# Altium footprint library 691 338 500 0xx.PcbLib: 6 footprints
Each footprint in its own frame and in the unit in brackets; x right, y up, seen from the top. Pads: shape width x height; smd on the part's side, far side on the other; paste and mask are expansions set on the pad; w line width, h text height; cw(c..) or ccw(c..) is an arc to the next point about the centre after c.
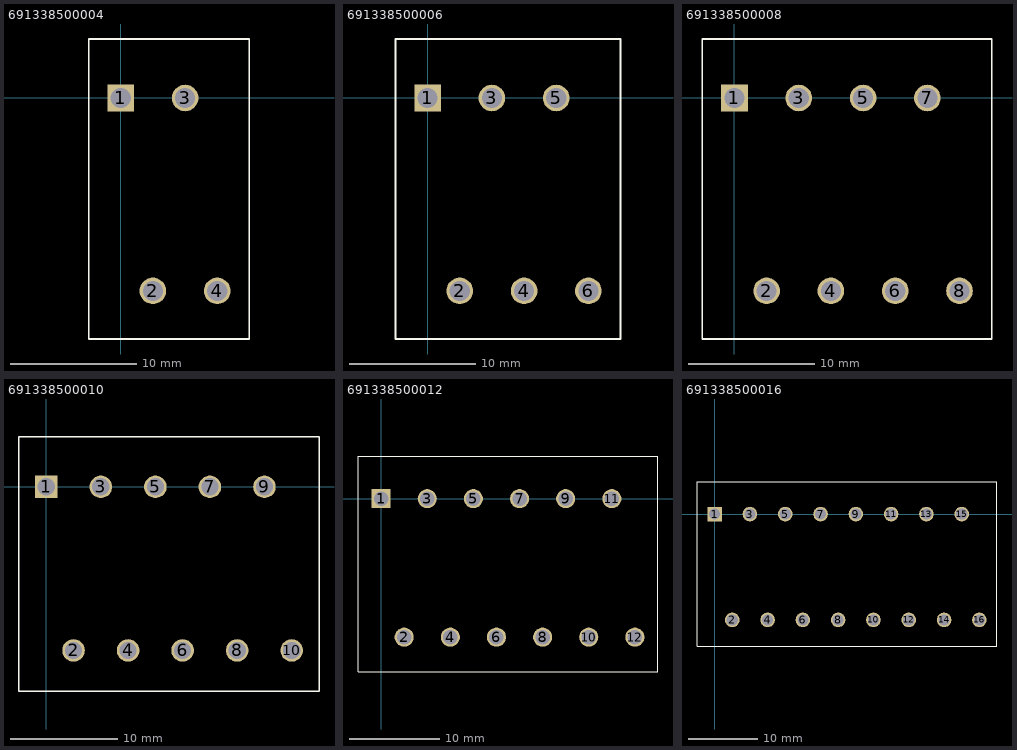
[diagram p0: the footprints below, top view; thin cyan lines are the x and y axes]

## 691338500004 [mm] "5,08mm - PCB - Dual row - Staggered - Vertical - Open - 04p"
height 22
pads (4):
  rect 2.1x2.1 hole 1.6: 1(0,0)
  round 2.1 hole 1.6: 2(2.54,-15.24) 3(5.08,0) 4(7.62,-15.24)
Top Overlay:
  lines w0.127: -2.54,-19.04 10.16,-19.04 10.16,4.66 -2.54,4.66 -2.54,-19.04
3D body: height 22.01, standoff -3.89, extent -2.54,-19.04 10.16,4.66

## 691338500006 [mm] "5,08mm - PCB - Dual row - Staggered - Vertical - Open - 06p"
height 22
pads (6):
  rect 2.1x2.1 hole 1.6: 1(0,0)
  round 2.1 hole 1.6: 2(2.54,-15.24) 3(5.08,0) 4(7.62,-15.24) 5(10.16,0) 6(12.7,-15.24)
Top Overlay:
  lines w0.127: 2.54,-19.04 15.24,-19.04 15.24,4.66 2.54,4.66 ; 10.16,-19.04 -2.54,-19.04 -2.54,4.66 10.16,4.66
3D body: height 22.01, standoff -3.89, extent -2.54,-19.04 15.24,4.66

## 691338500008 [mm] "5,08mm - PCB - Dual row - Staggered - Vertical - Open - 08p"
height 22
pads (8):
  rect 2.1x2.1 hole 1.6: 1(0,0)
  round 2.1 hole 1.6: 2(2.54,-15.24) 3(5.08,0) 4(7.62,-15.24) 5(10.16,0) 6(12.7,-15.24) 7(15.24,0) 8(17.78,-15.24)
Top Overlay:
  lines w0.127: 7.62,-19.04 20.32,-19.04 20.32,4.66 7.62,4.66 ; 10.16,-19.04 -2.54,-19.04 -2.54,4.66 10.16,4.66
3D body: height 22.01, standoff -3.89, extent -2.54,-19.04 20.32,4.66

## 691338500010 [mm] "5,08mm - PCB - Dual row - Staggered - Vertical - Open - 10p"
height 22
pads (10):
  rect 2.1x2.1 hole 1.6: 1(0,0)
  round 2.1 hole 1.6: 2(2.54,-15.24) 3(5.08,0) 4(7.62,-15.24) 5(10.16,0) 6(12.7,-15.24) 7(15.24,0) 8(17.78,-15.24) 9(20.32,0) 10(22.86,-15.24)
Top Overlay:
  lines w0.127: 7.62,-19.04 20.32,-19.04 ; 7.62,4.66 20.32,4.66 ; 10.16,-19.04 -2.54,-19.04 -2.54,4.66 10.16,4.66 ; 12.7,-19.04 25.4,-19.04 25.4,4.66 12.7,4.66
3D body: height 22.01, standoff -3.89, extent -2.54,-19.04 25.4,4.66

## 691338500012 [mm] "5,08mm - PCB - Dual row - Staggered - Vertical - Open - 12p"
height 22
pads (12):
  rect 2.1x2.1 hole 1.6: 1(0,0)
  round 2.1 hole 1.6: 2(2.54,-15.24) 3(5.08,0) 4(7.62,-15.24) 5(10.16,0) 6(12.7,-15.24) 7(15.24,0) 8(17.78,-15.24) 9(20.32,0) 10(22.86,-15.24) 11(25.4,0) 12(27.94,-15.24)
Top Overlay:
  lines w0.127: 7.62,-19.04 20.32,-19.04 ; 7.62,4.66 20.32,4.66 ; 10.16,-19.04 -2.54,-19.04 -2.54,4.66 10.16,4.66 ; 17.78,-19.04 30.48,-19.04 30.48,4.66 17.78,4.66
3D body: height 22.01, standoff -3.89, extent -2.54,-19.04 30.48,4.66

## 691338500016 [mm] "5,08mm - PCB - Dual row - Staggered - Vertical - Open - 16p"
height 22
pads (16):
  rect 2.1x2.1 hole 1.6: 1(0,0)
  round 2.1 hole 1.6: 2(2.54,-15.24) 3(5.08,0) 4(7.62,-15.24) 5(10.16,0) 6(12.7,-15.24) 7(15.24,0) 8(17.78,-15.24) 9(20.32,0) 10(22.86,-15.24) 11(25.4,0) 12(27.94,-15.24) 13(30.48,0) 14(33.02,-15.24) 15(35.56,0) 16(38.1,-15.24)
Top Overlay:
  lines w0.127: 7.62,-19.04 20.32,-19.04 ; 7.62,4.66 20.32,4.66 ; 10.16,-19.04 -2.54,-19.04 -2.54,4.66 10.16,4.66 ; 17.78,-19.04 30.48,-19.04 ; 17.78,4.66 30.48,4.66 ; 27.94,-19.04 40.64,-19.04 40.64,4.66 27.94,4.66
3D body: height 22.01, standoff -3.89, extent -2.54,-19.04 40.64,4.66